# Altium schematic symbol library Schematics.SchLib: 1 symbol
Pins are listed as number, name and electrical type; pins without a type are passive.

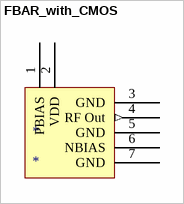
[diagram p0: symbol FBAR_with_CMOS]

## FBAR_with_CMOS
designator *
footprint FBAR_with_CMOS
pins: 1 PBIAS (power), 2 VDD (power), 3 GND (power), 4 RF Out (out), 5 GND (power), 6 NBIAS (power), 7 GND (power)